# EAGLE library part GTL2000DGG,118 (library SamacSys_Parts)
NXP - GTL2000DGG,118 - BIDIR LOW VOLT TRANSLATOR, 22BIT, TSSOP Source: Datasheet <http://www.nxp.com/docs/en/data-sheet/GTL2000.pdf>
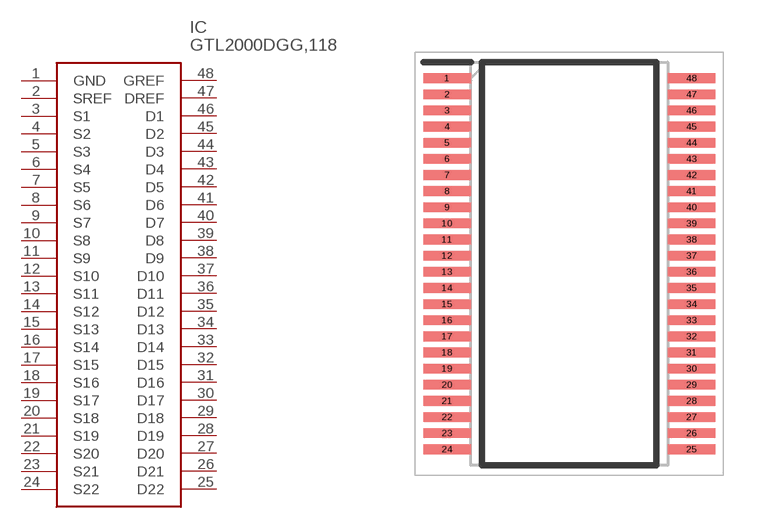
[diagram p0: symbol with the pads of SOP50P810X120-48N; footprint SOP50P810X120-48N]

Designator prefix IC

## GTL2000DGG,118 (Description: NXP - GTL2000DGG,118 - BIDIR LOW VOLT TRANSLATOR, 22BIT, TSSOP; Height: 1.2mm; Manufacturer_Name: NXP; Manufacturer_Part_Number: GTL2000DGG,118; Mouser_Part_Number: 771-GTL2000DGG118; Mouser_Price-Stock: https://www.mouser.co.uk/ProductDetail/NXP-Semiconductors/GTL2000DGG118?qs=MWRe%252BjyhxRtqrv5Ekz%252By%2FA%3D%3D)  [SOP50P810X120-48N]
1  GND
2  SREF
3  S1
4  S2
5  S3
6  S4
7  S5
8  S6
9  S7
10  S8
11  S9
12  S10
13  S11
14  S12
15  S13
16  S14
17  S15
18  S16
19  S17
20  S18
21  S19
22  S20
23  S21
24  S22
25  D22
26  D21
27  D20
28  D19
29  D18
30  D17
31  D16
32  D15
33  D14
34  D13
35  D12
36  D11
37  D10
38  D9
39  D8
40  D7
41  D6
42  D5
43  D4
44  D3
45  D2
46  D1
47  DREF
48  GREF

## Footprint SOP50P810X120-48N (pad centres in mm)
TSSOP48_1
smd 1.475 x 0.3: 1 -3.788,5.75; 2 -3.788,5.25; 3 -3.788,4.75; 4 -3.788,4.25; 5 -3.788,3.75; 6 -3.788,3.25; 7 -3.788,2.75; 8 -3.788,2.25; 9 -3.788,1.75; 10 -3.788,1.25; 11 -3.788,0.75; 12 -3.788,0.25; 13 -3.788,-0.25; 14 -3.788,-0.75; 15 -3.788,-1.25; 16 -3.788,-1.75; 17 -3.788,-2.25; 18 -3.788,-2.75; 19 -3.788,-3.25; 20 -3.788,-3.75; 21 -3.788,-4.25; 22 -3.788,-4.75; 23 -3.788,-5.25; 24 -3.788,-5.75; 25 3.788,-5.75; 26 3.788,-5.25; 27 3.788,-4.75; 28 3.788,-4.25; 29 3.788,-3.75; 30 3.788,-3.25; 31 3.788,-2.75; 32 3.788,-2.25; 33 3.788,-1.75; 34 3.788,-1.25; 35 3.788,-0.75; 36 3.788,-0.25; 37 3.788,0.25; 38 3.788,0.75; 39 3.788,1.25; 40 3.788,1.75; 41 3.788,2.25; 42 3.788,2.75; 43 3.788,3.25; 44 3.788,3.75; 45 3.788,4.25; 46 3.788,4.75; 47 3.788,5.25; 48 3.788,5.75